# EAGLE library part 691406510012B (library Wurth_Connectors_WR-TBL Spring Clamp)
WR-TBL Series 4065B - Screwless Push In 5.08 mm pitch - Horizontal cable entry - THT KIND PROPERTIES Pitch 5.08 mm GENERAL INFORMATION Operating Temperature -40 up to +105 °C Mechanical Properties Wire Strip Length 9 up to 10 (mm) Wire Properties Solid Wire Section (AWG) 24 to 12 (AWG) Solid Wire Section (Metric) 0.2 to 2.5 (mm²) Stranded Wire Section (AWG) 24 to 12 (AWG) Stranded Wire Section (Metric) 0.2 to 2.5 (mm²) MATERIAL PROPERTIES Insulator Material PA66 Insulator Flammability Rating UL94 V-0 Insulator Color Green Spring Material Stainless Steel ELECTRICAL PROPERTIES IR cULus 20 A Working Voltage 300 V Working Voltage [cULus] 300 V Withstanding Voltage [cULus] 1600 V Contact Resistance [cULus] 20 mΩ CERTIFICATION cULus Approval E315414 Packaging Properties Packaging Box <https://www.we-online.com/catalog/media/o257335v209%206914065100xxB_multi-parts.jpg> Details see: https://www.we-online.com/catalog/en/WR-TBL_SERIES4065B_SCREWLESSPUSHIN_5_08MM-PITCH_HORIZONTAL-CABLE-ENTRY_THT Created by Ella Wu 2021-02-23 2021(C) Wurth Elektronik
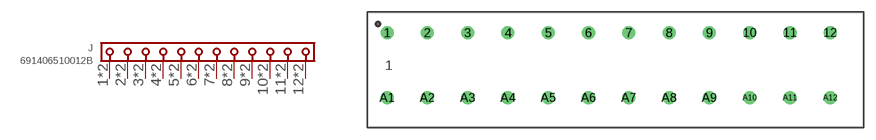
[diagram p122: symbol with the pads of 691406510012B; footprint 691406510012B]

Designator prefix J

## 691406510012B (DATASHEET-URL: https://www.we-online.com/redexpert/spec/691406510012B?ae; IR-UL: 20A; MOUNT: THT; PART-NUMBER: 691406510012B; PINS: 12; PITCH: 5.08mm; TYPE: Horizontal Cable Entry; VALUE: 691406510012B; WIRE: 24 to 12 (AWG) 0.2 to 2.5 (mm²); WORKING-VOLTAGE-UL: 300V (AC))  [691406510012B]
1  1  pas
2  2  pas
3  3  pas
4  4  pas
5  5  pas
6  6  pas
7  7  pas
8  8  pas
9  9  pas
10  10  pas
11  11  pas
12  12  pas
A1  1  pas
A2  2  pas
A3  3  pas
A4  4  pas
A5  5  pas
A6  6  pas
A7  7  pas
A8  8  pas
A9  9  pas
A10  10  pas
A11  11  pas
A12  12  pas

## Footprint 691406510012B (pad centres in mm)
WR-TBL Series 4065B - Screwless Push In 5.08 mm pitch - Horizontal cable entry - THT Series 4065B, Pitch 5.08mm,THT, 12pins
drill 1.1: 1 -27.94,4.1; 2 -22.86,4.1; 3 -17.78,4.1; 4 -12.7,4.1; 5 -7.62,4.1; 6 -2.54,4.1; 7 2.54,4.1; 8 7.62,4.1; 9 12.7,4.1; 10 17.78,4.1; 11 22.86,4.1; 12 27.94,4.1; A1 -27.94,-4.1; A2 -22.86,-4.1; A3 -17.78,-4.1; A4 -12.7,-4.1; A5 -7.62,-4.1; A6 -2.54,-4.1; A7 2.54,-4.1; A8 7.62,-4.1; A9 12.7,-4.1; A10 17.78,-4.1; A11 22.86,-4.1; A12 27.94,-4.1